# EAGLE library part BG96MA (library Deegou_IC)
LTE Module Source: Datasheet <http://www.quectel.com/product/bg96.htm>
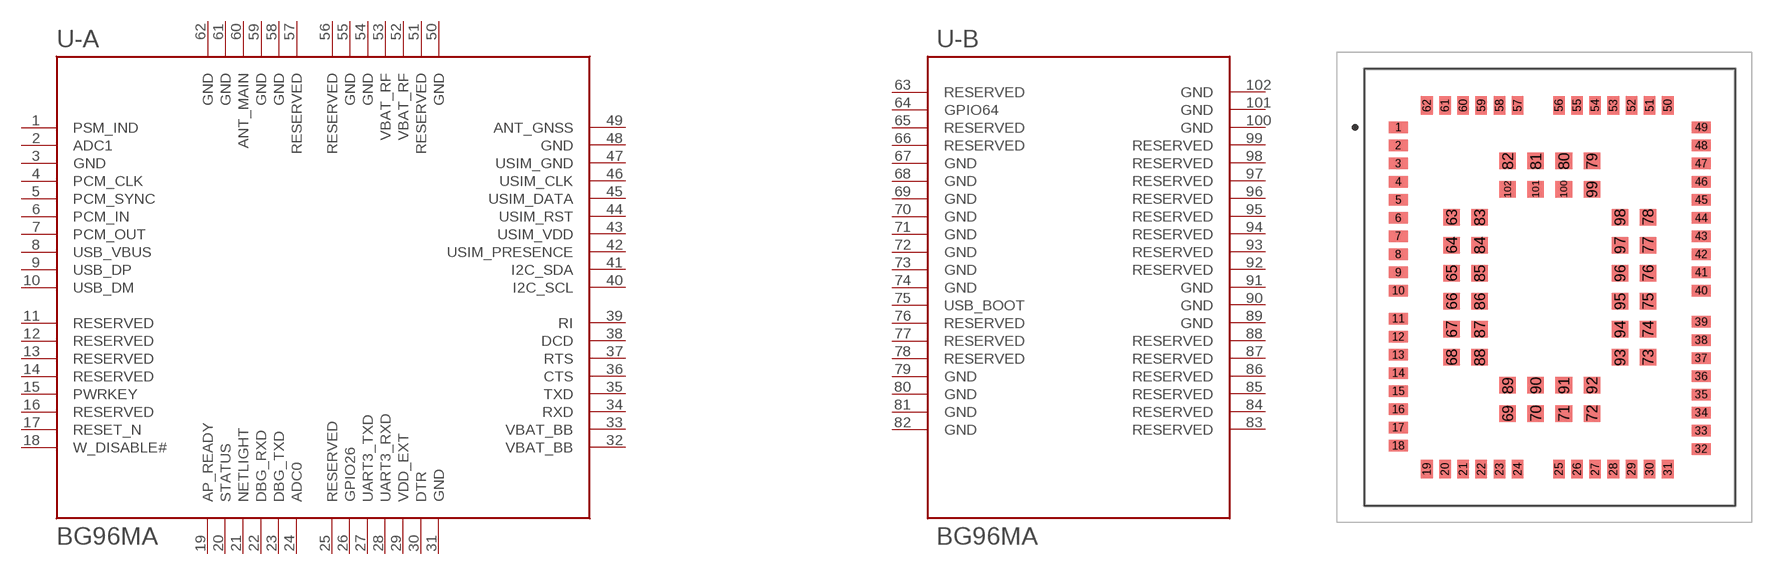
[diagram p80: symbol with the pads of BG96MA; footprint BG96MA]

Designator prefix U; gates -A=BG96MA-A -B=BG96MA-B

## BG96MA (ARROW_PART_NUMBER: BG96MA; DESCRIPTION: LTE Module; HEIGHT: 2mm; MANUFACTURER_NAME: Quectel; MANUFACTURER_PART_NUMBER: BG96MA)  [BG96MA]
1  -A:PSM_IND
2  -A:ADC1
3  -A:GND
4  -A:PCM_CLK
5  -A:PCM_SYNC
6  -A:PCM_IN
7  -A:PCM_OUT
8  -A:USB_VBUS
9  -A:USB_DP
10  -A:USB_DM
11  -A:RESERVED
12  -A:RESERVED
13  -A:RESERVED
14  -A:RESERVED
15  -A:PWRKEY
16  -A:RESERVED
17  -A:RESET_N
18  -A:W_DISABLE#
19  -A:AP_READY
20  -A:STATUS
21  -A:NETLIGHT
22  -A:DBG_RXD
23  -A:DBG_TXD
24  -A:ADC0
25  -A:RESERVED
26  -A:GPIO26
27  -A:UART3_TXD
28  -A:UART3_RXD
29  -A:VDD_EXT
30  -A:DTR
31  -A:GND
32  -A:VBAT_BB
33  -A:VBAT_BB
34  -A:RXD
35  -A:TXD
36  -A:CTS
37  -A:RTS
38  -A:DCD
39  -A:RI
40  -A:I2C_SCL
41  -A:I2C_SDA
42  -A:USIM_PRESENCE
43  -A:USIM_VDD
44  -A:USIM_RST
45  -A:USIM_DATA
46  -A:USIM_CLK
47  -A:USIM_GND
48  -A:GND
49  -A:ANT_GNSS
50  -A:GND
51  -A:RESERVED
52  -A:VBAT_RF
53  -A:VBAT_RF
54  -A:GND
55  -A:GND
56  -A:RESERVED
57  -A:RESERVED
58  -A:GND
59  -A:GND
60  -A:ANT_MAIN
61  -A:GND
62  -A:GND
63  -B:RESERVED
64  -B:GPIO64
65  -B:RESERVED
66  -B:RESERVED
67  -B:GND
68  -B:GND
69  -B:GND
70  -B:GND
71  -B:GND
72  -B:GND
73  -B:GND
74  -B:GND
75  -B:USB_BOOT
76  -B:RESERVED
77  -B:RESERVED
78  -B:RESERVED
79  -B:GND
80  -B:GND
81  -B:GND
82  -B:GND
83  -B:RESERVED
84  -B:RESERVED
85  -B:RESERVED
86  -B:RESERVED
87  -B:RESERVED
88  -B:RESERVED
89  -B:GND
90  -B:GND
91  -B:GND
92  -B:RESERVED
93  -B:RESERVED
94  -B:RESERVED
95  -B:RESERVED
96  -B:RESERVED
97  -B:RESERVED
98  -B:RESERVED
99  -B:RESERVED
100  -B:GND
101  -B:GND
102  -B:GND

## Footprint BG96MA (pad centres in mm)
BG96MA
smd 1.15 x 0.7: 1 -9.18,9.7; 2 -9.18,8.6; 3 -9.18,7.5; 4 -9.18,6.4; 5 -9.18,5.3; 6 -9.18,4.2; 7 -9.18,3.1; 8 -9.18,2; 9 -9.18,0.9; 10 -9.18,-0.2; 11 -9.18,-1.9; 12 -9.18,-3; 13 -9.18,-4.1; 14 -9.18,-5.2; 15 -9.18,-6.3; 16 -9.18,-7.4; 17 -9.18,-8.5; 18 -9.18,-9.6; 32 9.18,-9.8; 33 9.18,-8.7; 34 9.18,-7.6; 35 9.18,-6.5; 36 9.18,-5.4; 37 9.18,-4.3; 38 9.18,-3.2; 39 9.18,-2.1; 40 9.18,-0.2; 41 9.18,0.9; 42 9.18,2; 43 9.18,3.1; 44 9.18,4.2; 45 9.18,5.3; 46 9.18,6.4; 47 9.18,7.5; 48 9.18,8.6; 49 9.18,9.7
smd 0.7 x 1.15: 19 -7.45,-11.025; 20 -6.35,-11.025; 21 -5.25,-11.025; 22 -4.15,-11.025; 23 -3.05,-11.025; 24 -1.95,-11.025; 25 0.55,-11.025; 26 1.65,-11.025; 27 2.75,-11.025; 28 3.85,-11.025; 29 4.95,-11.025; 30 6.05,-11.025; 31 7.15,-11.025; 50 7.15,11.025; 51 6.05,11.025; 52 4.95,11.025; 53 3.85,11.025; 54 2.75,11.025; 55 1.65,11.025; 56 0.55,11.025; 57 -1.95,11.025; 58 -3.05,11.025; 59 -4.15,11.025; 60 -5.25,11.025; 61 -6.35,11.025; 62 -7.45,11.025
smd 1 x 1: 63 -5.95,4.25; 64 -5.95,2.55; 65 -5.95,0.85; 66 -5.95,-0.85; 67 -5.95,-2.55; 68 -5.95,-4.25; 69 -2.55,-7.65; 70 -0.85,-7.65; 71 0.85,-7.65; 72 2.55,-7.65; 73 5.95,-4.25; 74 5.95,-2.55; 75 5.95,-0.85; 76 5.95,0.85; 77 5.95,2.55; 78 5.95,4.25; 79 2.55,7.65; 80 0.85,7.65; 81 -0.85,7.65; 82 -2.55,7.65; 83 -4.25,4.25; 84 -4.25,2.55; 85 -4.25,0.85; 86 -4.25,-0.85; 87 -4.25,-2.55; 88 -4.25,-4.25; 89 -2.55,-5.95; 90 -0.85,-5.95; 91 0.85,-5.95; 92 2.55,-5.95; 93 4.25,-4.25; 94 4.25,-2.55; 95 4.25,-0.85; 96 4.25,0.85; 97 4.25,2.55; 98 4.25,4.25; 99 2.55,5.95; 100 0.85,5.95; 101 -0.85,5.95; 102 -2.55,5.95